# Altium footprint library Sensor Package.PcbLib: 78 footprints (part 2 of 5)
Each footprint in its own frame and in the unit in brackets; x right, y up, seen from the top. Pads: shape width x height; smd on the part's side, far side on the other; paste and mask are expansions set on the pad; w line width, h text height; cw(c..) or ccw(c..) is an arc to the next point about the centre after c.
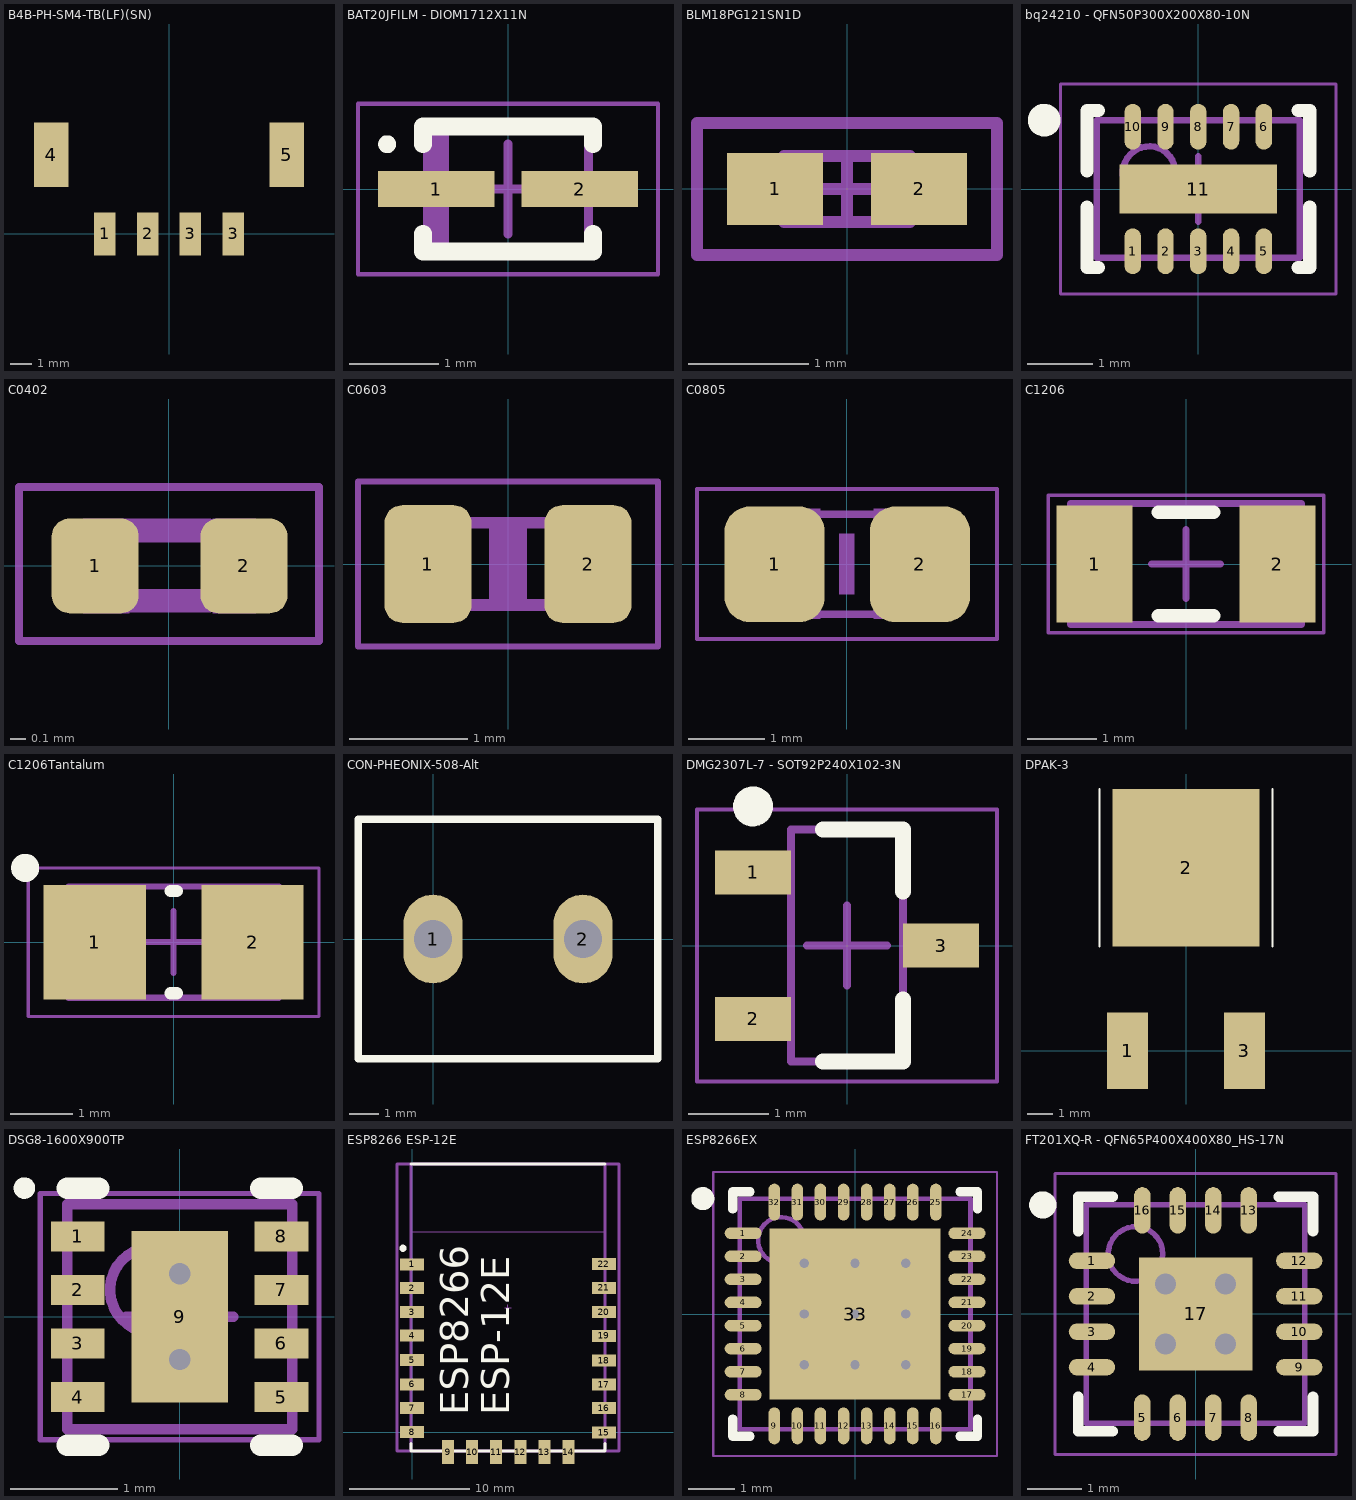
[diagram p1: the footprints below, top view; thin cyan lines are the x and y axes]

## B4B-PH-SM4-TB(LF)(SN) [mm]
pads (6):
  rect 1x2 smd: 1(-3,0) 2(-1,0) 3(1,0) 3(3,0)
  rect 1.6x3 smd: 4(-5.5,3.7) 5(5.5,3.7)
3D body "B4B-PH-SM4-TB.STEP": height 6.6, standoff 0, extent -5.975,-0.777 5.975,6.223

## BAT20JFILM - DIOM1712X11N [mm] "Molded Diode, 2-Leads, Body 1.66x1.23mm, IPC Medium Density"
height 1.13
pads (2):
  rect 1.3x0.4 smd: 1(-0.8,0) 2(0.8,0)
Top Overlay:
  circle w0.1: c-1.35,0.5 r0.05
  lines w0.2: -0.95,-0.5 -0.95,-0.7 0.95,-0.7 0.95,-0.5 ; -0.95,0.5 -0.95,0.7 0.95,0.7 0.95,0.5
Mechanical 13:
  rectangle: -0.9,-0.675 -0.658,0.675
  lines w0.1: -0.9,-0.675 -0.9,0.675 0.9,0.675 0.9,-0.675 -0.9,-0.675
Mechanical 15:
  lines w0.05: -1.675,-0.95 -1.675,0.95 1.675,0.95 1.675,-0.95 -1.675,-0.95
  lines w0.1: -0.5,0 0.5,0 ; 0,-0.5 0,0.5
3D body: height 1.13, standoff 0, extent -0.9,-0.675 0.9,0.675

## BLM18PG121SN1D [mm] "Chip Inductor, 2-Leads, Body 1.0x0.5mm, IPC Medium Density"
height 0.6
pads (2):
  rect 0.8x0.6 smd: 1(-0.6,0) 2(0.6,0)
Mechanical 13:
  lines w0.1: -0.525,-0.275 0.525,-0.275 0.525,0.275 -0.525,0.275 -0.525,-0.275
Mechanical 15:
  lines w0.1: -0.275,0 0.275,0 ; 0,-0.275 0,0.275 ; -1.25,-0.55 1.25,-0.55 1.25,0.55 -1.25,0.55 -1.25,-0.55
3D body: height 0.6, standoff 0, extent -0.525,-0.275 0.525,0.275

## bq24210 - QFN50P300X200X80-10N [mm] "QFN, 10-Leads, Body 3.00x2.00mm, Pitch 0.50mm, IPC Medium Density"
height 0.8
pads (11):
  oval 0.25x0.7 smd: 1(-1,-0.95) 2(-0.5,-0.95) 3(0,-0.95) 4(0.5,-0.95) 5(1,-0.95) 6(1,0.95) 7(0.5,0.95) 8(0,0.95) 9(-0.5,0.95) 10(-1,0.95)
  rect 2.4x0.75 smd: 11(0,0)
Top Overlay:
  circle w0.25: c-2.35,1.05 r0.125
  lines w0.2: -1.7,-0.275 -1.7,-1.2 -1.525,-1.2 ; -1.7,0.275 -1.7,1.2 -1.525,1.2 ; 1.525,-1.2 1.7,-1.2 1.7,-0.275 ; 1.525,1.2 1.7,1.2 1.7,0.275
Mechanical 13:
  circle w0.1: c-0.75,0.25 r0.4
  lines w0.1: -1.55,-1.05 1.55,-1.05 1.55,1.05 -1.55,1.05 -1.55,-1.05
Mechanical 15:
  lines w0.05: -2.1,-1.6 2.1,-1.6 2.1,1.6 -2.1,1.6 -2.1,-1.6
  lines w0.1: -0.5,0 0.5,0 ; 0,-0.5 0,0.5
3D body: height 0.8, standoff 0.02, extent -1.55,-1.05 1.55,1.05

## C0402 [mil]
pads (2):
  rrect40% 22x24 smd: 1(-18.7,0) 2(19,0)
Mechanical 8:
  rectangle: -21.8,-12 -9.98,12
  rectangle: 11,-12 22,12
  lines w6: -9.65,-8.82 10,-8.82 ; -9.65,9 10,9
Mechanical 15:
  lines w2: -37.99,-19.02 38,-19.02 38,20 -37.99,20 -37.99,-19.02
3D body: height 19.68, standoff 0, extent -20,-10 20,10

## C0603 [mm]
pads (2):
  rrect40% 0.74x1 smd: 1(-0.68,0) 2(0.68,0)
Mechanical 6:
  rectangle: -0.16,-0.3 0.16,0.3
Mechanical 8:
  rectangle: 0.45,-0.4 0.8,0.4
  rectangle: -0.8,-0.4 -0.45,0.4
  lines w0.1: -0.45,0.35 0.45,0.35
  lines w0.102: -0.45,-0.35 0.45,-0.35
Mechanical 15:
  lines w0.051: -1.275,-0.7 -1.275,0.7 1.275,0.7 1.275,-0.7 -1.275,-0.7
3D body: height 0.8, standoff 0, extent -0.8,-0.4 0.8,0.4

## C0805 [mil]
pads (2):
  rrect50% 52x60 smd: 1(-37.4,0) 2(38,0)
Mechanical 6:
  rectangle: -3.94,-15.75 4,16
Mechanical 8:
  rectangle: 14,-28.5 44,29
  rectangle: -43,-28.5 -13.47,29
  lines w4: -15,26 15,26 ; -14.02,-25.98 15,-25.98
Mechanical 15:
  lines w2: -77.68,-38.7 -77.68,39 78,39 78,-38.7 -77.68,-38.7
3D body: height 35.43, standoff 0, extent -40,-30 40,30

## C1206 [mm]
height 1.6
pads (2):
  rect 1.1x1.7 smd: 1(-1.325,0) 2(1.325,0)
Top Overlay:
  lines w0.2: -0.4,-0.75 0.4,-0.75 ; -0.4,0.75 0.4,0.75
Mechanical 13:
  lines w0.1: -1.675,-0.875 1.675,-0.875 1.675,0.875 -1.675,0.875 -1.675,-0.875
Mechanical 15:
  lines w0.05: -2,-1 2,-1 2,1 -2,1 -2,-1
  lines w0.1: -0.5,0 0.5,0 ; 0,-0.5 0,0.5
3D body: height 1.6, standoff 0, extent 1.125,-0.875 1.675,0.875
3D body: height 1.6, standoff 0, extent -1.675,-0.875 -1.125,0.875
3D body: height 1.6, standoff 0, extent -1.125,-0.875 1.125,0.875

## C1206Tantalum [mm] "Chip Capacitor, 2-Leads, Body 3.20x1.60mm, IPC Medium Density"
height 1.8
pads (2):
  rect 1.65x1.85 smd: 1(-1.275,0) 2(1.275,0)
Top Overlay:
  circle w0.254: c-2.4,1.2 r0.1
  lines w0.2: -0.05,-0.825 0.05,-0.825 ; -0.05,0.825 0.05,0.825
Mechanical 13:
  lines w0.1: -1.7,-0.9 1.7,-0.9 1.7,0.9 -1.7,0.9 -1.7,-0.9
Mechanical 15:
  lines w0.05: -2.35,-1.2 2.35,-1.2 2.35,1.2 -2.35,1.2 -2.35,-1.2
  lines w0.1: -0.5,0 0.5,0 ; 0,-0.5 0,0.5
3D body: height 1.8, standoff 0, extent 0.85,-0.9 1.7,0.9
3D body: height 1.8, standoff 0, extent -1.7,-0.9 -0.85,0.9
3D body: height 1.8, standoff 0, extent -0.85,-0.9 0.85,0.9

## CON-PHEONIX-508-Alt [mm]
pads (2):
  oval 2x3 hole 1.3: 1(0,0) 2(5.08,0)
Top Overlay:
  lines w0.254: -2.54,-4.064 -2.54,0 -2.54,4.064 0,4.064 2.54,4.064 5.08,4.064 7.62,4.064 7.62,0 7.62,-4.064 -2.54,-4.064

## DMG2307L-7 - SOT92P240X102-3N [mm] "SOT23, 3-Leads, Body 2.85x2.40mm, Pitch 0.92mm, IPC Medium Density"
height 1.03
pads (3):
  rect 0.95x0.55 smd: 1(-1.175,0.915) 2(-1.175,-0.915) 3(1.175,0)
Top Overlay:
  circle w0.25: c-1.175,1.74 r0.125
  lines w0.2: -0.3,-1.45 0.7,-1.45 0.7,-0.675 ; -0.3,1.45 0.7,1.45 0.7,0.675
Mechanical 13:
  lines w0.1: -0.7,-1.45 0.7,-1.45 0.7,1.45 -0.7,1.45 -0.7,-1.45
Mechanical 15:
  lines w0.05: -1.875,-1.7 1.875,-1.7 1.875,1.7 -1.875,1.7 -1.875,-1.7
  lines w0.1: -0.5,0 0.5,0 ; 0,-0.5 0,0.5
3D body: height 1.03, standoff 0.05, extent -0.7,-1.45 0.7,1.45

## DPAK-3 [mm] "Case 369C-01 for MC78xx regulators"
height 2.38
pads (3):
  rect 1.6x3 smd: 1(-2.3,0) 3(2.3,0)
  rect 5.8x6.2 smd: 2(0,7.2)
Top Overlay:
  lines w0.076: -3.4,4.1 -3.4,10.3 ; 3.4,4.1 3.4,10.3
3D body: height 2.38, standoff 0, extent -3.4,4.1 3.4,10.3

## DSG8-1600X900TP [mm] "SON, 8-Leads, Body 2x2mm, Pitch 0.5mm, Thermal Pad 1.6x0.9mm, TI Recommended"
height 0.8
pads (9):
  rect 0.5x0.28 smd paste-0.14 mask+0.07: 1(-0.95,0.75) 2(-0.95,0.25) 3(-0.95,-0.25) 4(-0.95,-0.75) 5(0.95,-0.75) 6(0.95,-0.25) 7(0.95,0.25) 8(0.95,0.75)
  rect 0.9x1.6 smd paste-0.45 mask+0.07: 9(0,0)
via 0,0.4 diameter 0.5 hole 0.2
via 0,-0.4 diameter 0.5 hole 0.2
Top Overlay:
  circle w0.1: c-1.45,1.2 r0.05
  lines w0.2: -1.05,-1.2 -0.755,-1.2 ; -1.05,1.2 -0.755,1.2 ; 0.755,-1.2 1.05,-1.2 ; 0.755,1.2 1.05,1.2
Top Paste:
  rectangle: 0.7,0.625 1.2,0.875
  rectangle: 0.7,0.125 1.2,0.375
  rectangle: 0.7,-0.375 1.2,-0.125
  rectangle: 0.7,-0.875 1.2,-0.625
  rectangle: -1.2,-0.875 -0.7,-0.625
  rectangle: -1.2,-0.375 -0.7,-0.125
  rectangle: -1.2,0.625 -0.7,0.875
  rectangle: -0.341,-0.65 0.359,0.65
  rectangle: -1.2,0.125 -0.7,0.375
Mechanical 13:
  circle w0.1: c-0.25,0.25 r0.4
  lines w0.1: -1.05,-1.05 -1.05,1.05 1.05,1.05 1.05,-1.05 -1.05,-1.05
Mechanical 15:
  lines w0.05: -1.3,-1.15 -1.3,1.15 1.3,1.15 1.3,-1.15 -1.3,-1.15
  lines w0.1: -0.5,0 0.5,0 ; 0,-0.5 0,0.5
3D body: height 0.8, standoff 0, extent -1.05,-1.05 1.05,1.05

## ESP8266 ESP-12E [mm]
pads (22):
  rect 2x1 smd: 1(0,13.99) 2(0,12.02) 3(0,10.02) 4(0,8.05) 5(0,6.01) 6(0,4) 7(0,2.01) 8(0,0) 15(16,-0.04) 16(16,2) 17(16,3.96) 18(16,5.98) 19(16,8.04) 20(16,10.02) 21(16,12.04) 22(16,14.02)
  rect 1x2 smd: 9(2.997,-1.651) 10(5.007,-1.651) 11(7.017,-1.651) 12(9.027,-1.651) 13(11.037,-1.651) 14(13.047,-1.651)
Top Overlay:
  circle w0.3: c-0.762,15.346 r0.15
  lines w0.254: -0.084,-0.927 -0.084,-1.578 16.084,-1.578 16.084,-0.926 ; -0.084,22.361 16.084,22.361
  text "ESP-12E" at 8.89,1.397 h4
  text "ESP8266" at 5.461,1.397 h4
Mechanical 13:
  lines w0.051: -0.127,16.717 -0.127,22.372 16.129,22.372 16.129,16.717 -0.127,16.717
  lines w0.254: -0.084,-1.578 16.084,-1.578 16.084,22.361 -0.084,22.361 -0.084,-1.578
  text "CUTOUT POLYGON" at 0.127,21.356 h0.25
  text "ANTENNA AREA" at 0.127,21.864 h0.25
Mechanical 15:
  lines w0.1: 7.746,10.391 8.254,10.391 ; 8,10.137 8,10.645
  lines w0.254: -1.27,-1.578 -1.27,22.361 17.272,22.361 17.272,-1.578 -1.27,-1.578
3D body "User Library-ESP_12_E.STEP": height 2.7, standoff -0.01, extent 0.001,-1.524 16.001,22.476

## ESP8266EX [mm] "QFN, 32-Leads, Body 5.00x5.00mm, Pitch 0.50mm, Thermal Pad 3.70x3.70mm, IPC Medium Density"
height 1
pads (33):
  oval 0.8x0.25 smd: 1(-2.425,1.75) 2(-2.425,1.25) 3(-2.425,0.75) 4(-2.425,0.25) 5(-2.425,-0.25) 6(-2.425,-0.75) 7(-2.425,-1.25) 8(-2.425,-1.75) 17(2.425,-1.75) 18(2.425,-1.25) 19(2.425,-0.75) 20(2.425,-0.25) 21(2.425,0.25) 22(2.425,0.75) 23(2.425,1.25) 24(2.425,1.75)
  oval 0.25x0.8 smd: 9(-1.75,-2.425) 10(-1.25,-2.425) 11(-0.75,-2.425) 12(-0.25,-2.425) 13(0.25,-2.425) 14(0.75,-2.425) 15(1.25,-2.425) 16(1.75,-2.425) 25(1.75,2.425) 26(1.25,2.425) 27(0.75,2.425) 28(0.25,2.425) 29(-0.25,2.425) 30(-0.75,2.425) 31(-1.25,2.425) 32(-1.75,2.425)
  rect 3.7x3.7 smd: 33(0,0)
via -1.1,1.1 diameter 0.5 hole 0.2
via 0,1.1 diameter 0.5 hole 0.2
via 1.1,1.1 diameter 0.5 hole 0.2
via -1.1,0 diameter 0.5 hole 0.2
via 0,0 diameter 0.5 hole 0.2
via 1.1,0 diameter 0.5 hole 0.2
via -1.1,-1.1 diameter 0.5 hole 0.2
via 0,-1.1 diameter 0.5 hole 0.2
via 1.1,-1.1 diameter 0.5 hole 0.2
Top Overlay:
  circle w0.25: c-3.3,2.5 r0.125
  lines w0.2: -2.65,-2.275 -2.65,-2.65 -2.275,-2.65 ; -2.65,2.275 -2.65,2.65 -2.275,2.65 ; 2.275,-2.65 2.65,-2.65 2.65,-2.275 ; 2.275,2.65 2.65,2.65 2.65,2.275
Mechanical 13:
  circle w0.1: c-1.6,1.6 r0.5
  lines w0.1: -2.5,-2.5 -2.5,2.5 2.5,2.5 2.5,-2.5 -2.5,-2.5
Mechanical 15:
  lines w0.05: -3.075,-3.075 -3.075,3.075 3.075,3.075 3.075,-3.075 -3.075,-3.075
  lines w0.1: -0.5,0 0.5,0 ; 0,-0.5 0,0.5
3D body: height 1, standoff 0.05, extent -2.5,-2.5 2.5,2.5

## FT201XQ-R - QFN65P400X400X80_HS-17N [mm] "QFN, 16-Leads, Body 4.00x4.00mm, Pitch 0.65mm, Thermal Pad 2.08x2.08mm, IPC Medium Density"
height 0.8
pads (17):
  oval 0.85x0.3 smd: 1(-1.9,0.975) 2(-1.9,0.325) 3(-1.9,-0.325) 4(-1.9,-0.975) 9(1.9,-0.975) 10(1.9,-0.325) 11(1.9,0.325) 12(1.9,0.975)
  oval 0.3x0.85 smd: 5(-0.975,-1.9) 6(-0.325,-1.9) 7(0.325,-1.9) 8(0.975,-1.9) 13(0.975,1.9) 14(0.325,1.9) 15(-0.325,1.9) 16(-0.975,1.9)
  rect 2.08x2.08 smd: 17(0,0)
via 0.55,-0.55 diameter 0.635 hole 0.381
via -0.55,-0.55 diameter 0.635 hole 0.381
via 0.55,0.55 diameter 0.635 hole 0.381
via -0.55,0.55 diameter 0.635 hole 0.381
Top Overlay:
  circle w0.25: c-2.8,2 r0.125
  lines w0.2: -2.15,-1.525 -2.15,-2.15 -1.525,-2.15 ; -2.15,1.525 -2.15,2.15 -1.525,2.15 ; 1.525,-2.15 2.15,-2.15 2.15,-1.525 ; 1.525,2.15 2.15,2.15 2.15,1.525
Mechanical 13:
  circle w0.1: c-1.1,1.1 r0.5
  lines w0.1: -2,-2 2,-2 2,2 -2,2 -2,-2
Mechanical 15:
  lines w0.05: -2.575,-2.575 2.575,-2.575 2.575,2.575 -2.575,2.575 -2.575,-2.575
  lines w0.1: -0.5,0 0.5,0 ; 0,-0.5 0,0.5
3D body: height 0.8, standoff 0.02, extent -2,-2 2,2